# EAGLE library part EL5171 (library ruark2)
Single Ended to Differential Amplifier 1 Circuit 8-SOIC
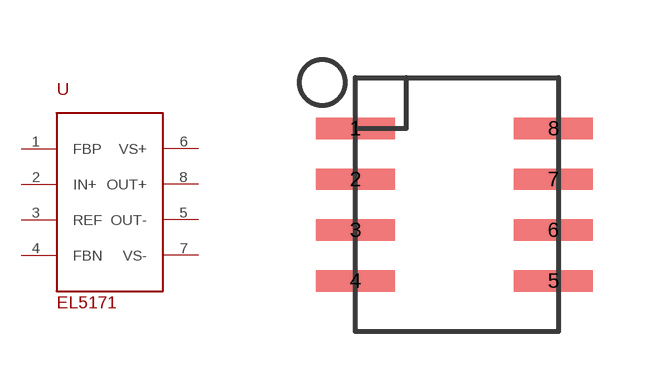
[diagram p47: symbol with the pads of SOIC8; footprint SOIC8]

Designator prefix U

## EL5171 (PARTNO: EL5171ISZ-ND)  [SOIC8]
1  FBP
2  IN+
3  REF
4  FBN
5  OUT-
6  VS+
7  VS-
8  OUT+

## Footprint SOIC8 (pad centres in mm)
smd 1.981 x 0.533: 1 -2.477,1.905; 2 -2.477,0.635; 3 -2.477,-0.635; 4 -2.477,-1.905; 5 2.477,-1.905; 6 2.477,-0.635; 7 2.477,0.635; 8 2.477,1.905